# Altium footprint library Footprints.PcbLib: 21 footprints (part 1 of 2)
Each footprint in its own frame and in the unit in brackets; x right, y up, seen from the top. Pads: shape width x height; smd on the part's side, far side on the other; paste and mask are expansions set on the pad; w line width, h text height; cw(c..) or ccw(c..) is an arc to the next point about the centre after c.
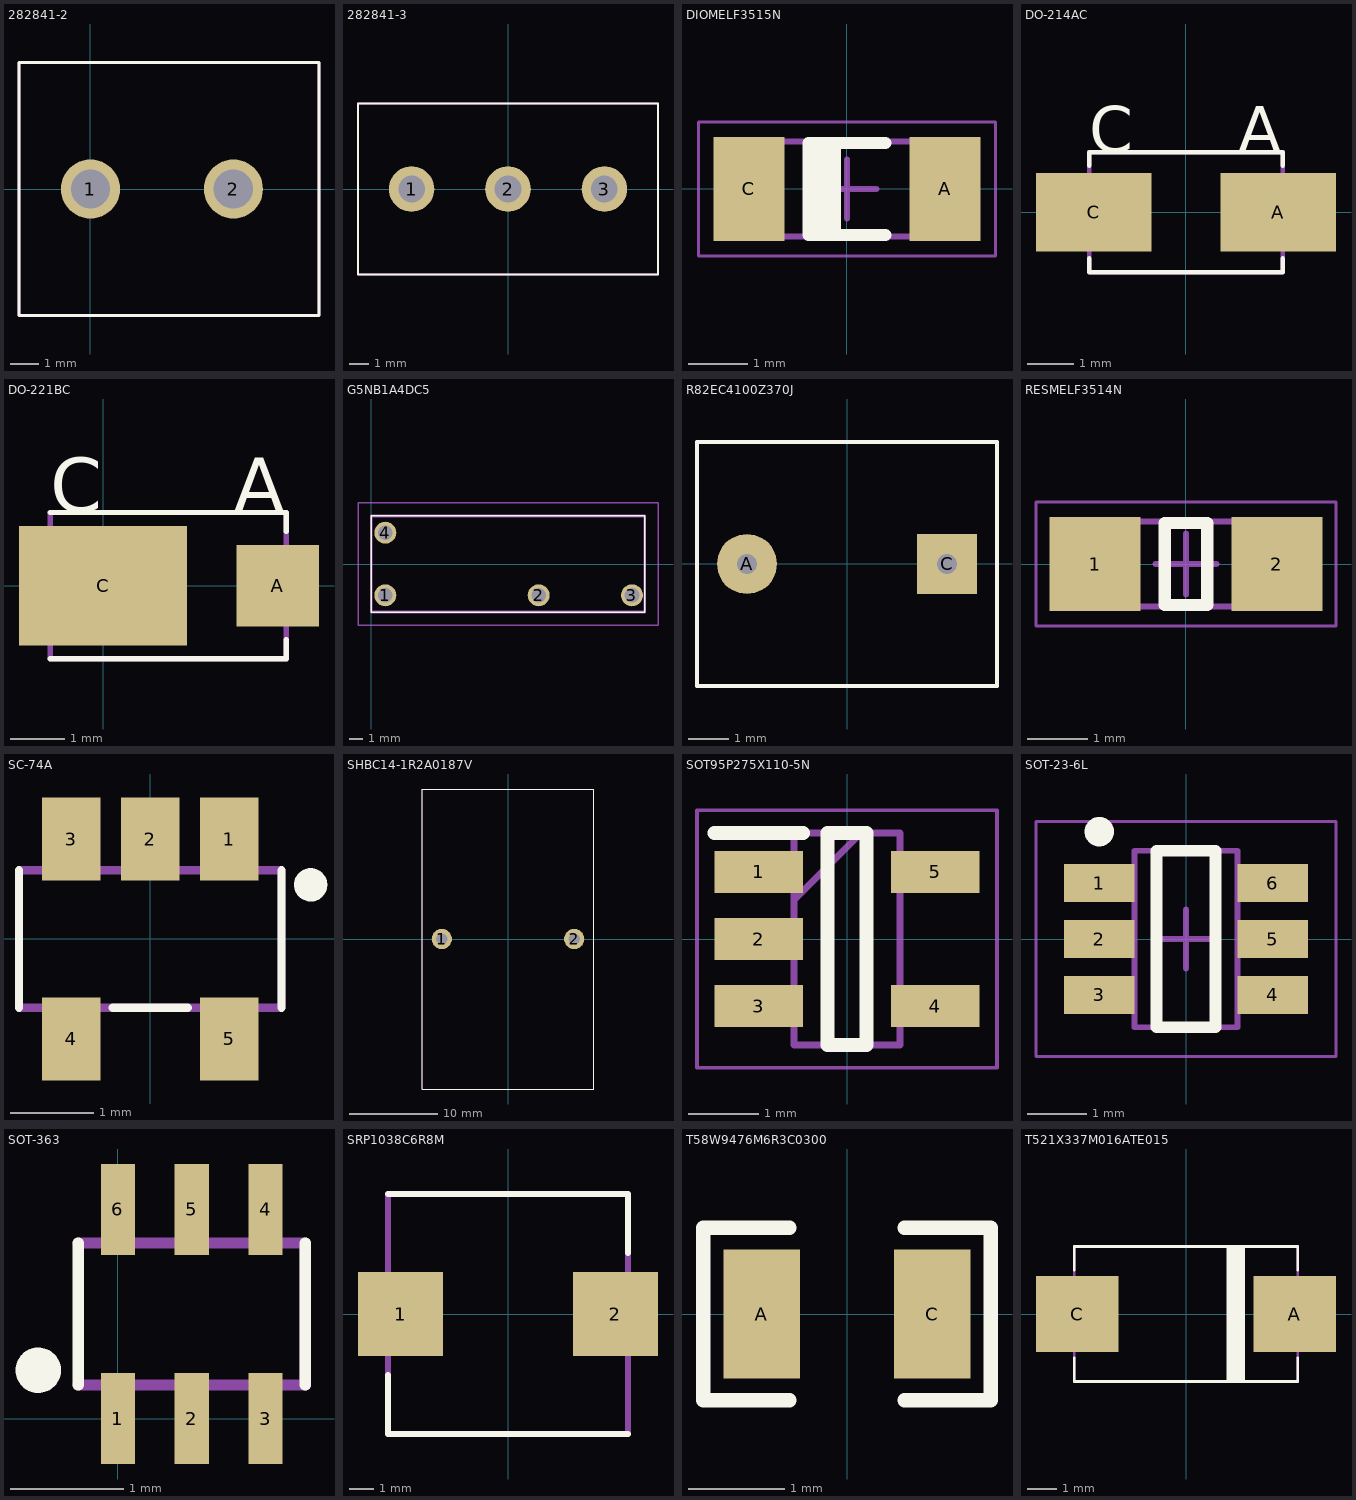
[diagram p0: the footprints below, top view; thin cyan lines are the x and y axes]

## 282841-2 [mm]
pads (2):
  round 2.1 hole 1.4: 1(0,0) 2(5.08,0)
Top Overlay:
  lines w0.1: -2.54,-4.5 -2.54,4.5 8.12,4.5 8.12,-4.5 -2.54,-4.5
Mechanical 13:
  lines w0.1: -2.54,-4.5 -2.54,4.5 8.12,4.5 8.12,-4.5 -2.54,-4.5
3D body "282841-2.stp": height 15.11, standoff -3.59, extent -2.54,-4.5 8.12,4.5

## 282841-3 [mm]
pads (3):
  round 2.4 hole 1.4: 1(-5.08,0) 2(0,0) 3(5.08,0)
Top Overlay:
  lines w0.1: -7.9,-4.5 -7.9,4.5 7.9,4.5 7.9,-4.5 -7.9,-4.5
Mechanical 13:
  lines w0.1: -7.9,-4.5 -7.9,4.5 7.9,4.5 7.9,-4.5 -7.9,-4.5
3D body "282841-3.stp": height 15.2, standoff -3.5, extent -7.87,-4.5 7.87,4.5

## DIOMELF3515N [mm] "MELF Diode, 2-Leads, Body 3.50x1.50mm, IPC Medium Density"
height 1.6
pads (2):
  rect 1.2x1.75 smd: A(1.65,0) C(-1.65,0)
Top Overlay:
  rectangle: -0.65,-0.775 -0.1,0.775
  lines w0.2: 0.65,-0.775 -0.65,-0.775 -0.65,0.775 0.65,0.775
Mechanical 13:
  lines w0.1: -1.85,-0.8 1.85,-0.8 1.85,0.8 -1.85,0.8 -1.85,-0.8
Mechanical 15:
  lines w0.05: -2.5,-1.125 2.5,-1.125 2.5,1.125 -2.5,1.125 -2.5,-1.125
  lines w0.1: -0.5,0 0.5,0 ; 0,-0.5 0,0.5
3D body "SOD-80 MiniMELF.stp": height 1.59, standoff -0.01, extent -1.85,-0.8 1.85,0.8

## DO-214AC [mm]
pads (2):
  rect 2.5x1.7 smd: A(2,0) C(-2,0)
Top Overlay:
  lines w0.1: -2.1,-1 -2.1,-1.3 2.1,-1.3 2.1,-1 ; -2.1,1 -2.1,1.3 2.1,1.3 2.1,1
  text "A" at 1.134,1.3 h1
  text "C" at -2.1,1.3 h1
Mechanical 13:
  lines w0.1: -2.1,-1.3 2.1,-1.3 2.1,1.3 -2.1,1.3 -2.1,-1.3
3D body "DO-214AC SMA.STEP": height 2.4, standoff 0, extent -2.6,-1.3 2.6,1.3

## DO-221BC [mm]
pads (2):
  rect 1.52x1.5 smd: A(3.22,0)
  rect 3.1x2.2 smd: C(0,0)
Top Overlay:
  lines w0.1: -0.975,-1.35 3.375,-1.35 3.375,-1 ; -0.975,1.35 3.375,1.35 3.375,1
  text "A" at 2.409,1.35 h1
  text "C" at -0.975,1.35 h1
Mechanical 13:
  lines w0.1: -0.975,-1.35 3.375,-1.35 3.375,1.35 -0.975,1.35 -0.975,-1.35
3D body "SMPA.STEP": height 0.95, standoff 0, extent -1.375,-1.3 3.825,1.3

## G5NB1A4DC5 [mm]
pads (4):
  round 1.65 hole 1.1: 1(1.05,-2.35) 2(12.55,-2.35) 3(19.55,-2.35) 4(1.05,2.35)
Top Overlay:
  lines w0.1: 0,-3.6 0,3.6 20.5,3.6 20.5,-3.6 0,-3.6
Mechanical 13:
  lines w0.2: 0,-3.6 0,3.6 20.5,3.6 20.5,-3.6 0,-3.6
Mechanical 15:
  lines w0.1: -1,-4.6 -1,4.6 21.5,4.6 21.5,-4.6 -1,-4.6
3D body "G5NB-1A4-E-DC5.stp": height 15.1, standoff -5, extent 0,-3.6 20.5,3.6

## R82EC4100Z370J [mm]
pads (2):
  round 1.5 hole 0.5: A(-2.5,0)
  rect 1.5x1.5 hole 0.5: C(2.5,0)
Top Overlay:
  lines w0.1: -3.75,-3.05 3.75,-3.05 3.75,3.05 -3.75,3.05 -3.75,-3.05
Mechanical 13:
  lines w0.1: -3.75,-3.05 -3.75,3.05 3.75,3.05 3.75,-3.05 -3.75,-3.05
3D body "R82EC4100Z370J.stp": height 11.3, standoff -4.8, extent -3.75,-3.05 3.75,3.051

## RESMELF3514N [mm] "MELF Resistor, 2-Leads, Body 3.50x1.35mm, IPC Medium Density"
height 1.4
pads (2):
  rect 1.5x1.55 smd: 1(-1.5,0) 2(1.5,0)
Top Overlay:
  lines w0.2: -0.35,-0.675 -0.35,0.675 0.35,0.675 0.35,-0.675 -0.35,-0.675
Mechanical 13:
  lines w0.1: -1.8,-0.7 1.8,-0.7 1.8,0.7 -1.8,0.7 -1.8,-0.7
Mechanical 15:
  lines w0.05: -2.475,-1.025 2.475,-1.025 2.475,1.025 -2.475,1.025 -2.475,-1.025
  lines w0.1: -0.5,0 0.5,0 ; 0,-0.5 0,0.5
3D body "RESMELF3514N.step": height 1.35, standoff 0.01, extent -1.75,-0.674 1.75,0.674

## SC-74A [mm]
pads (5):
  rect 0.7x1 smd: 1(0.95,1.2) 2(0,1.2) 3(-0.95,1.2) 4(-0.95,-1.2) 5(0.95,-1.2)
Top Overlay:
  circle w0.2: c1.925,0.65 r0.1
  lines w0.1: -1.575,-0.825 -1.575,0.825 ; -0.45,-0.825 0.45,-0.825 ; 1.575,-0.825 1.575,0.825
Mechanical 13:
  lines w0.1: -1.575,-0.825 1.575,-0.825 1.575,0.825 -1.575,0.825 -1.575,-0.825
3D body "SC-74A.stp": height 1.2, standoff 0, extent -1.45,-1.4 1.45,1.4

## SHBC14-1R2A0187V [mm]
pads (2):
  round 2.3 hole 1.3: 1(-7.501,0) 2(7.501,0)
Top Overlay:
  lines w0.1: -9.7,-17 -9.7,17 9.7,17 9.7,-17 -9.7,-17
Mechanical 13:
  lines w0.1: -9.7,-17 9.7,-17 9.7,17 -9.7,17 -9.7,-17
3D body "SHBC14-1R2A0187V.step": height 38, standoff -5, extent -9.7,-17 9.7,17

## SOT95P275X110-5N [mm]
pads (5):
  rect 1.25x0.6 smd: 1(-1.25,0.95) 2(-1.25,0) 3(-1.25,-0.95) 4(1.25,-0.95) 5(1.25,0.95)
Top Overlay:
  lines w0.2: -1.875,1.5 -0.625,1.5 ; -0.275,-1.5 -0.275,1.5 0.275,1.5 0.275,-1.5 -0.275,-1.5
Mechanical 13:
  lines w0.1: -0.75,0.55 0.2,1.5 ; -0.75,-1.5 -0.75,1.5 0.75,1.5 0.75,-1.5 -0.75,-1.5
Mechanical 15:
  lines w0.05: -2.125,-1.825 -2.125,1.825 2.125,1.825 2.125,-1.825 -2.125,-1.825
3D body "MC74VHC1G135DBVT1G.stp": height 1.1, standoff 0, extent -1.375,-1.5 1.375,1.5

## SOT-23-6L [mm] "SOT23, 6-Leads, Body 2.90x2.80mm, Pitch 0.95mm, IPC Low Density"
height 1.45
pads (6):
  rect 1.2x0.65 smd: 1(-1.475,0.95) 2(-1.475,0) 3(-1.475,-0.95) 4(1.475,-0.95) 5(1.475,0) 6(1.475,0.95)
Top Overlay:
  circle w0.25: c-1.475,1.825 r0.125
  lines w0.2: -0.5,-1.5 -0.5,1.5 0.5,1.5 0.5,-1.5 -0.5,-1.5
Mechanical 13:
  lines w0.1: -0.875,-1.5 0.875,-1.5 0.875,1.5 -0.875,1.5 -0.875,-1.5
Mechanical 15:
  lines w0.05: -2.55,-2 2.55,-2 2.55,2 -2.55,2 -2.55,-2
  lines w0.1: -0.5,0 0.5,0 ; 0,-0.5 0,0.5
3D body "SOT95P280X145-6M.step": height 1.45, standoff 0, extent -1.5,-1.5 1.5,1.5

## SOT-363 [mm]
pads (6):
  rect 0.3x0.8 smd: 1(0,0) 2(0.65,0) 3(1.3,0) 4(1.3,1.84) 5(0.65,1.84) 6(0,1.84)
Top Overlay:
  circle w0.2: c-0.7,0.425 r0.1
  lines w0.1: -0.35,0.295 -0.35,1.545 ; 1.65,0.295 1.65,1.545
Mechanical 13:
  lines w0.1: -0.35,0.295 1.65,0.295 1.65,1.545 -0.35,1.545
3D body "SOT363-SC70.STEP": height 1, standoff 0, extent -0.4,-0.225 1.7,2.075

## SRP1038C6R8M [mm]
pads (2):
  rect 3.55x3.5 smd: 1(-4.475,0) 2(4.475,0)
Top Overlay:
  lines w0.254: -5,-2.54 -5,-5 5,-5 ; -5,5 5,5 5,2.54
Mechanical 13:
  lines w0.254: -5,-5 -5,5 5,5 5,-5 -5,-5
3D body "SRP1038C-470M.stp": height 3.81, standoff 0, extent -5.5,-5 5.5,5

## T58W9476M6R3C0300 [mm] "0805 ceramic capacitor for reflow soldering"
pads (2):
  rect 0.8x1.35 smd: A(-0.889,0) C(0.889,0)
Top Overlay:
  lines w0.15: -0.6,-0.9 -1.5,-0.9 -1.5,0.9 -0.6,0.9 ; 0.6,-0.9 1.5,-0.9 1.5,0.9 0.6,0.9
3D body "(T58) W9-CASE.stp": height 0.86, standoff -0.04, extent -1.1,-0.739 1.1,0.711

## T521X337M016ATE015 [mm]
pads (2):
  rect 2.8x2.6 smd: A(3.7,0) C(-3.7,0)
Top Overlay:
  lines w0.1: -3.8,-1.5 -3.8,-2.3 3.8,-2.3 3.8,-1.5 ; -3.8,1.5 -3.8,2.3 3.8,2.3 3.8,1.5 ; 1.425,-2.3 1.425,2.3 ; 1.45,-2.3 1.45,2.3 ; 1.5,-2.3 1.5,2.3 ; 1.55,-2.3 1.55,2.3 ; 1.6,-2.3 1.6,2.3 ; 1.65,-2.3 1.65,2.3 ; 1.7,-2.3 1.7,2.3 ; 1.75,-2.3 1.75,2.3 ; 1.825,-2.3 1.825,2.3 ; 1.9,-2.3 1.9,2.3 ; 1.95,-2.3 1.95,2.3
Mechanical 13:
  lines w0.1: -3.8,-2.3 3.8,-2.3 3.8,2.3 -3.8,2.3 -3.8,-2.3
3D body "T521X337M016ATE015.step": height 4.31, standoff 0, extent -3.8,-2.3 3.8,2.3